# Altium integrated library LM1117.IntLib: 3 symbols
Pins are listed as number, name and electrical type; pins without a type are passive.

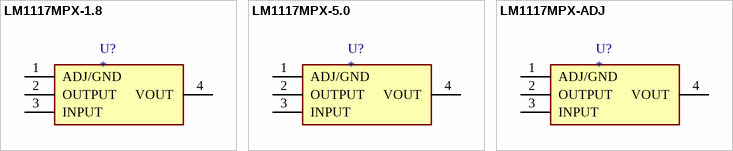
[diagram p0: symbols LM1117MPX-1.8 to LM1117MPX-ADJ]

## LM1117MPX-1.8
designator U?
datasheet LM1117MPX-1.8: https://www.ti.com/lit/ds/symlink/lm1117.pdf?HQS=dis-mous-null-mousermode-dsf-pf-null-wwe&DCM=yes&ref_url=https%3A%2F%2Fwww.mouser.es%2F&distId=26; ComponentLink1Description: mouser LM1117MPX-1.8; ComponentLink1URL: https://www.mouser.es/ProductDetail/Texas-Instruments/LM1117MP-18-NOPB?qs=X1J7HmVL2ZHoIMlImSU1JA%3D%3D
footprint SOT230P700X180-4N
pins: 1 ADJ/GND, 2 OUTPUT, 3 INPUT, 4 VOUT

## LM1117MPX-5.0
designator U?
datasheet LM1117MPX-5.0: https://www.ti.com/lit/ds/symlink/lm1117.pdf?HQS=dis-mous-null-mousermode-dsf-pf-null-wwe&DCM=yes&ref_url=https%3A%2F%2Fwww.mouser.es%2F&distId=26; ComponentLink2Description: mouser LM1117MPX-5.0; ComponentLink2URL: https://www.mouser.es/ProductDetail/Texas-Instruments/LM1117MP-50-NOPB?qs=X1J7HmVL2ZFGlzwnAaPsKg%3D%3D
footprint SOT230P700X180-4N
pins: 1 ADJ/GND, 2 OUTPUT, 3 INPUT, 4 VOUT

## LM1117MPX-ADJ
designator U?
datasheet LM1117MPX-ADJ: https://www.ti.com/lit/ds/symlink/lm1117.pdf?HQS=dis-mous-null-mousermode-dsf-pf-null-wwe&DCM=yes&ref_url=https%3A%2F%2Fpt.mouser.com%2F&distId=26; ComponentLink2Description: mouser LM1117MPX-ADJ; ComponentLink2URL: https://www.mouser.es/ProductDetail/Texas-Instruments/LM1117MPX-ADJ-NOPB?qs=X1J7HmVL2ZFw5HJtJ7173w%3D%3D
footprint SOT230P700X180-4N
pins: 1 ADJ/GND, 2 OUTPUT, 3 INPUT, 4 VOUT